# Altium schematic symbol library RM48L950DPGET.SchLib: 2 symbols
Pins are listed as number, name and electrical type; pins without a type are passive.

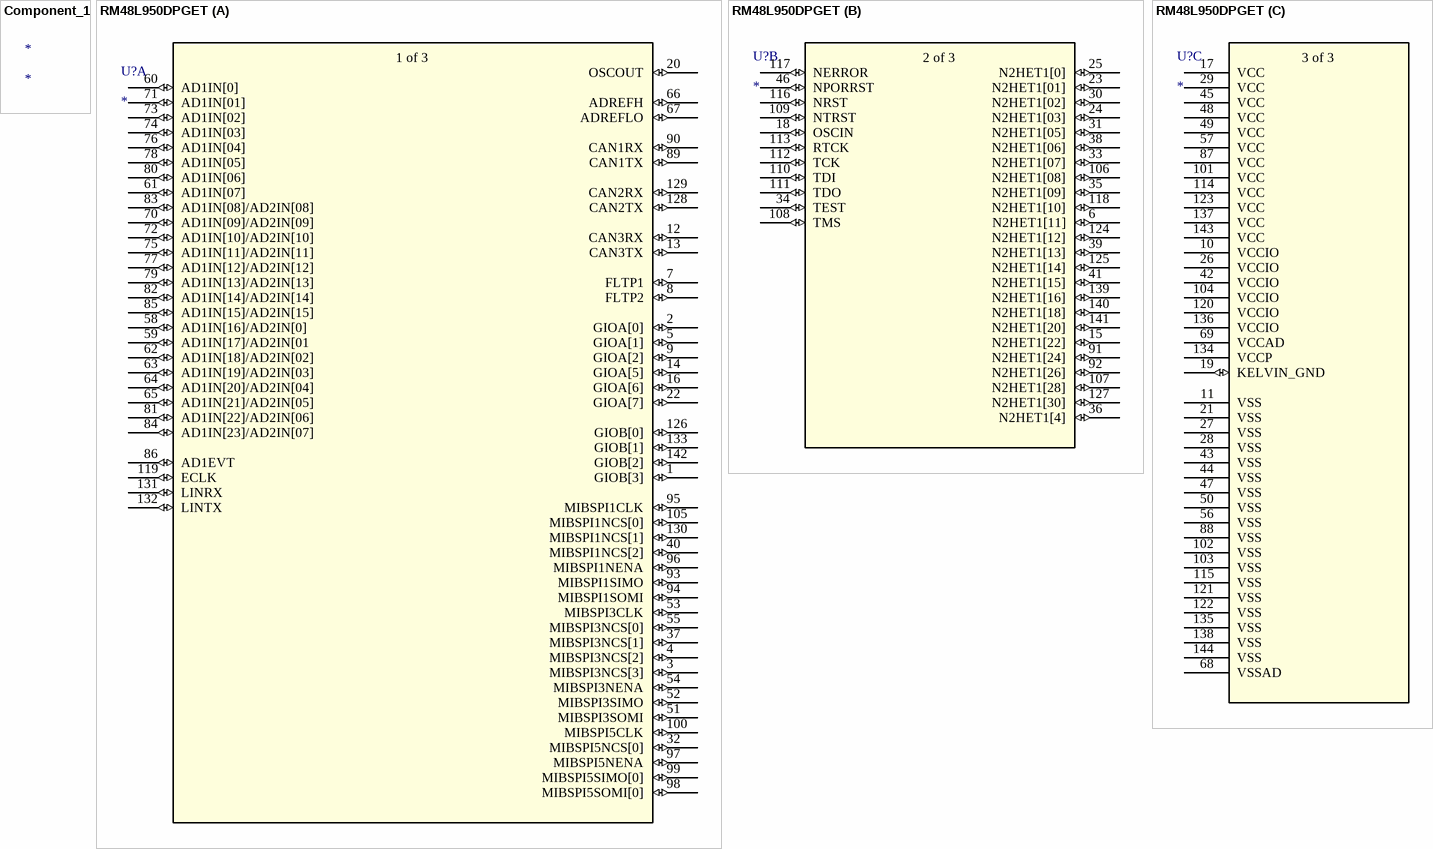
[diagram p0: symbols Component_1 to RM48L950DPGET]

## Component_1
designator *

## RM48L950DPGET
designator U?
No Description Available; Mfr_Name: Texas Instruments; RefDes: RefDes; Type: Type
footprint PGE144
part A pins: 1 GIOB[3] (io), 2 GIOA[0] (io), 3 MIBSPI3NCS[3] (io), 4 MIBSPI3NCS[2] (io), 5 GIOA[1] (io), 7 FLTP1 (io), 8 FLTP2 (io), 9 GIOA[2] (io), 12 CAN3RX (io), 13 CAN3TX (io), 14 GIOA[5] (io), 16 GIOA[6] (io), 20 OSCOUT (io), 22 GIOA[7] (io), 32 MIBSPI5NCS[0] (io), 37 MIBSPI3NCS[1] (io), 40 MIBSPI1NCS[2] (io), 51 MIBSPI3SOMI (io), 52 MIBSPI3SIMO (io), 53 MIBSPI3CLK (io), 54 MIBSPI3NENA (io), 55 MIBSPI3NCS[0] (io), 58 AD1IN[16]/AD2IN[0] (io), 59 AD1IN[17]/AD2IN[01 (io), 60 AD1IN[0] (io), 61 AD1IN[07] (io), 62 AD1IN[18]/AD2IN[02] (io), 63 AD1IN[19]/AD2IN[03] (io), 64 AD1IN[20]/AD2IN[04] (io), 65 AD1IN[21]/AD2IN[05] (io), 66 ADREFH (io), 67 ADREFLO (io), 70 AD1IN[09]/AD2IN[09] (io), 71 AD1IN[01] (io), 72 AD1IN[10]/AD2IN[10] (io), 73 AD1IN[02] (io), 74 AD1IN[03] (io), 75 AD1IN[11]/AD2IN[11] (io), 76 AD1IN[04] (io), 77 AD1IN[12]/AD2IN[12] (io), 78 AD1IN[05] (io), 79 AD1IN[13]/AD2IN[13] (io), 80 AD1IN[06] (io), 81 AD1IN[22]/AD2IN[06] (io), 82 AD1IN[14]/AD2IN[14] (io), 83 AD1IN[08]/AD2IN[08] (io), 84 AD1IN[23]/AD2IN[07] (io), 85 AD1IN[15]/AD2IN[15] (io), 86 AD1EVT (io), 89 CAN1TX (io), 90 CAN1RX (io), 93 MIBSPI1SIMO (io), 94 MIBSPI1SOMI (io), 95 MIBSPI1CLK (io), 96 MIBSPI1NENA (io), 97 MIBSPI5NENA (io), 98 MIBSPI5SOMI[0] (io), 99 MIBSPI5SIMO[0] (io), 100 MIBSPI5CLK (io), 105 MIBSPI1NCS[0] (io), 119 ECLK (io), 126 GIOB[0] (io), 128 CAN2TX (io), 129 CAN2RX (io), 130 MIBSPI1NCS[1] (io), 131 LINRX (io), 132 LINTX (io), 133 GIOB[1] (io), 142 GIOB[2] (io)
part B pins: 6 N2HET1[11] (io), 15 N2HET1[22] (io), 18 OSCIN (io), 23 N2HET1[01] (io), 24 N2HET1[03] (io), 25 N2HET1[0] (io), 30 N2HET1[02] (io), 31 N2HET1[05] (io), 33 N2HET1[07] (io), 34 TEST (io), 35 N2HET1[09] (io), 36 N2HET1[4] (io), 38 N2HET1[06] (io), 39 N2HET1[13] (io), 41 N2HET1[15] (io), 46 NPORRST (io), 91 N2HET1[24] (io), 92 N2HET1[26] (io), 106 N2HET1[08] (io), 107 N2HET1[28] (io), 108 TMS (io), 109 NTRST (io), 110 TDI (io), 111 TDO (io), 112 TCK (io), 113 RTCK (io), 116 NRST (io), 117 NERROR (io), 118 N2HET1[10] (io), 124 N2HET1[12] (io), 125 N2HET1[14] (io), 127 N2HET1[30] (io), 139 N2HET1[16] (io), 140 N2HET1[18] (io), 141 N2HET1[20] (io)
part C pins: 10 VCCIO (power), 11 VSS (power), 17 VCC (power), 19 KELVIN_GND (io), 21 VSS (power), 26 VCCIO (power), 27 VSS (power), 28 VSS (power), 29 VCC (power), 42 VCCIO (power), 43 VSS (power), 44 VSS (power), 45 VCC (power), 47 VSS (power), 48 VCC (power), 49 VCC (power), 50 VSS (power), 56 VSS (power), 57 VCC (power), 68 VSSAD (power), 69 VCCAD (power), 87 VCC (power), 88 VSS (power), 101 VCC (power), 102 VSS (power), 103 VSS (power), 104 VCCIO (power), 114 VCC (power), 115 VSS (power), 120 VCCIO (power), 121 VSS (power), 122 VSS (power), 123 VCC (power), 134 VCCP (power), 135 VSS (power), 136 VCCIO (power), 137 VCC (power), 138 VSS (power), 143 VCC (power), 144 VSS (power)
part A text: 1 of 3
part B text: 2 of 3
part C text: 3 of 3